# EAGLE library part RJ45-90 (library 1_spektrak)
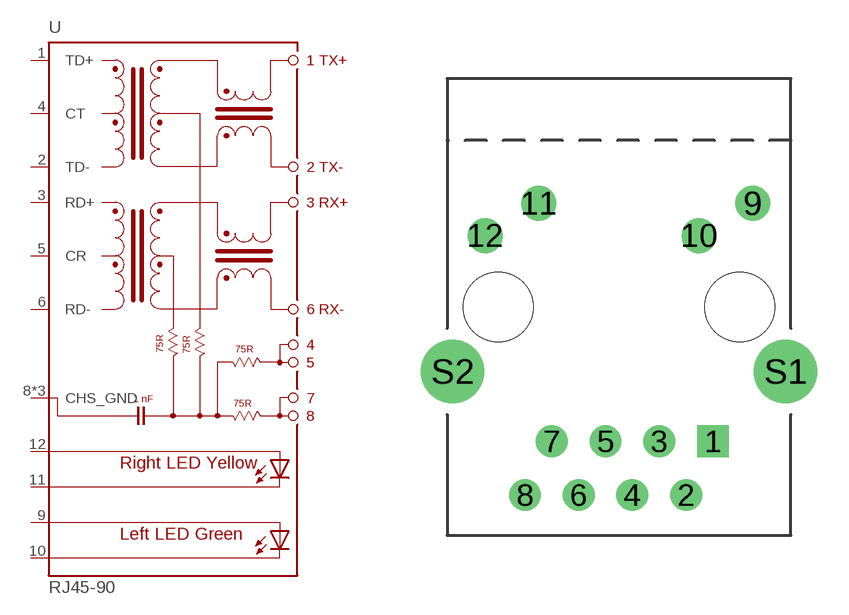
[diagram p27: symbol with the pads of RJ45-90; footprint RJ45-90]

Designator prefix U

## RJ45-90  [RJ45-90]
1  TD+  in
2  TD-  in
3  RD+  in
4  CT  in
5  CR  in
6  RD-  in
8  CHS_GND  in
9  A-L  pas
10  C-L  pas
11  C-R  pas
12  A-R  pas
S1  CHS_GND  in
S2  CHS_GND  in

## Footprint RJ45-90 (pad centres in mm)
drill 1 square: 1 4.445,-6.35
drill 1: 2 3.175,-8.89; 3 1.905,-6.35; 4 0.635,-8.89; 5 -0.635,-6.35; 6 -1.905,-8.89; 7 -3.175,-6.35; 8 -4.445,-8.89
drill 1.1: 9 6.325,4.902; 10 3.785,3.378; 11 -3.785,4.902; 12 -6.325,3.378
drill 2: S1 7.874,-3.048; S2 -7.874,-3.048
hole 3.302 at 5.715,0
hole 3.302 at -5.715,0